# Altium schematic symbol library TPS62821(2,3).SchLib: 1 symbol
Pins are listed as number, name and electrical type; pins without a type are passive.

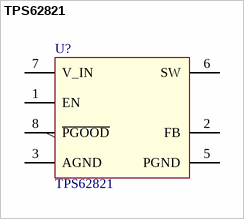
[diagram p0: symbol TPS62821]

## TPS62821
designator U?
2.4V-5.5V input, 1A step-down converter With 1% Accuracy in 1.5x2mm QFN; Value: TPS62821
footprint VSON-8-2X1.5 (Footprint not found)
pins: 1 EN, 2 FB, 3 AGND (power), 5 PGND (power), 6 SW, 7 V_IN (power), 8 ~{PGOOD} (oc)